# Altium schematic symbol library Crystal.SchLib: 1 symbol
Pins are listed as number, name and electrical type; pins without a type are passive.

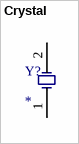
[diagram p0: symbol Crystal]

## Crystal
designator Y?
Crystal SMD
footprint CrystalSMD
footprint CRYSTALSMDMini
footprint CRYSTALTHR (Crystal Thru - Hole)
pins: 1, 2